# EAGLE library part X02-3 (library connectors)
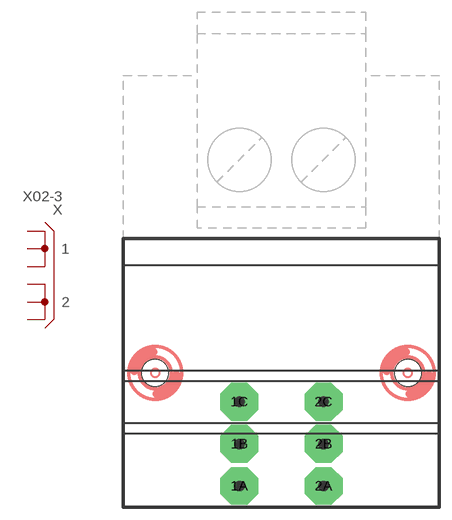
[diagram p60: symbol with the pads of X02-75A; footprint X02-75A]

Designator prefix X

## X02-3  [X02-75A]
1A  1A
1B  1
1C  1C
2A  2A
2B  2
2C  2C

## Footprint X02-75A (pad centres in mm)
drill 1.702 pad 4.572 octagon: 1A -5.08,-5.08; 1B -5.08,0; 1C -5.08,5.08; 2A 5.08,-5.08; 2B 5.08,0; 2C 5.08,5.08
hole 3.2 at 15.24,8.572
hole 3.2 at -15.24,8.572